# EAGLE library part ACCELERO (library zephod-components)
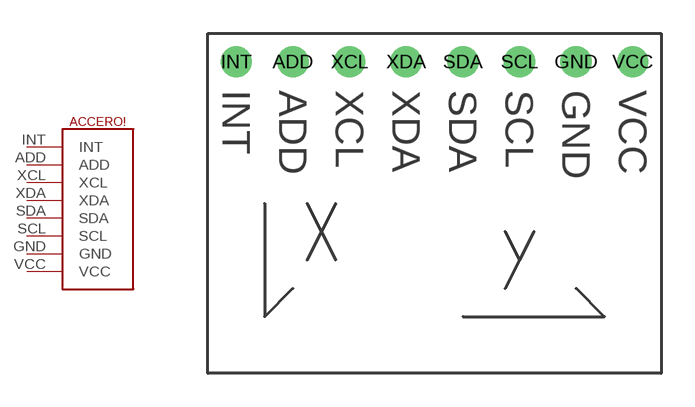
[diagram p17: symbol with the pads of ACCELBOARD; footprint ACCELBOARD]

Designator prefix -

## ACCELERO  [ACCELBOARD]
ADD  ADD
GND  GND
INT  INT
SCL  SCL
SDA  SDA
VCC  VCC
XCL  XCL
XDA  XDA

## Footprint ACCELBOARD (pad centres in mm)
drill 0.9: ADD -6.35,0; GND 6.35,0; INT -8.89,0; SCL 3.81,0; SDA 1.27,0; VCC 8.89,0; XCL -3.81,0; XDA -1.27,0